# EAGLE library part PWM_DRIVER (library reprap)
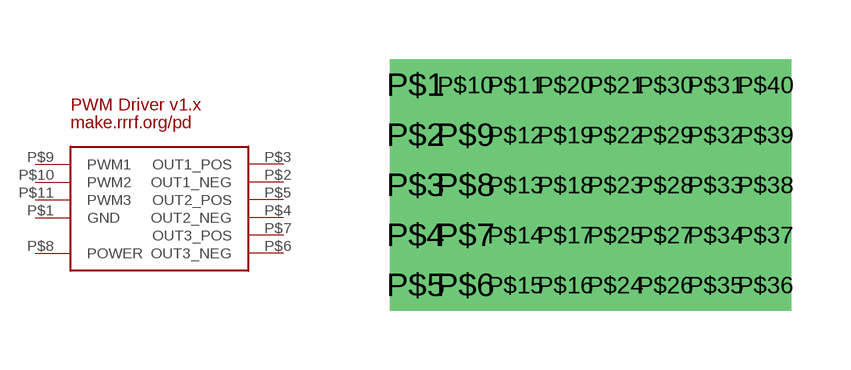
[diagram p1: symbol with the pads of EMPTY; footprint EMPTY]

Designator prefix -

## PWM_DRIVER  [EMPTY]
P$1  GND
P$2  OUT1_NEG
P$3  OUT1_POS
P$4  OUT2_NEG
P$5  OUT2_POS
P$6  OUT3_NEG
P$7  OUT3_POS
P$8  POWER
P$9  PWM1
P$10  PWM2
P$11  PWM3

## Footprint EMPTY (pad centres in mm)
drill 0.8 square: P$1 -1.27,5.08; P$2 -1.27,3.81; P$3 -1.27,2.54; P$4 -1.27,1.27; P$5 -1.27,0; P$6 0,0; P$7 0,1.27; P$8 0,2.54; P$9 0,3.81; P$10 0,5.08; P$11 1.27,5.08; P$12 1.27,3.81; P$13 1.27,2.54; P$14 1.27,1.27; P$15 1.27,0; P$16 2.54,0; P$17 2.54,1.27; P$18 2.54,2.54; P$19 2.54,3.81; P$20 2.54,5.08; P$21 3.81,5.08; P$22 3.81,3.81; P$23 3.81,2.54; P$24 3.81,0; P$25 3.81,1.27; P$26 5.08,0; P$27 5.08,1.27; P$28 5.08,2.54; P$29 5.08,3.81; P$30 5.08,5.08; P$31 6.35,5.08; P$32 6.35,3.81; P$33 6.35,2.54; P$34 6.35,1.27; P$35 6.35,0; P$36 7.62,0; P$37 7.62,1.27; P$38 7.62,2.54; P$39 7.62,3.81; P$40 7.62,5.08